# Altium footprint library 532614014.PcbLib: 3 footprints
Each footprint in its own frame and in the unit in brackets; x right, y up, seen from the top. Pads: shape width x height; smd on the part's side, far side on the other; paste and mask are expansions set on the pad; w line width, h text height; cw(c..) or ccw(c..) is an arc to the next point about the centre after c.
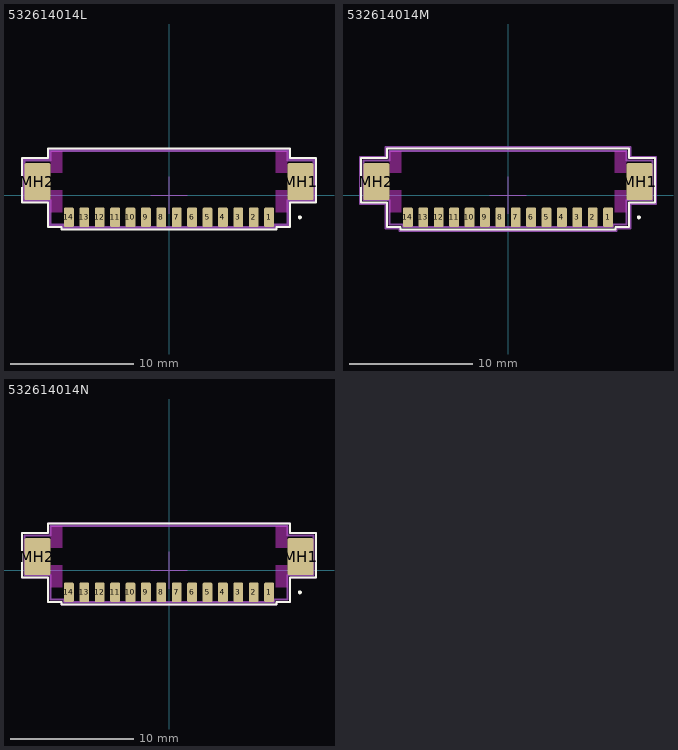
[diagram p0: the footprints below, top view; thin cyan lines are the x and y axes]

## 532614014L [mm] "Molex PicoBlade 14-Pin Right-Angle Connector with Gold Coating"
height 3.4
pads (16):
  rrect31% 0.8x1.6 smd: 1(8.125,-1.8) 2(6.875,-1.8) 3(5.625,-1.8) 4(4.375,-1.8) 5(3.125,-1.8) 6(1.875,-1.8) 7(0.625,-1.8) 8(-0.625,-1.8) 9(-1.875,-1.8) 10(-3.125,-1.8) 11(-4.375,-1.8) 12(-5.625,-1.8) 13(-6.875,-1.8) 14(-8.125,-1.8)
  rrect12% 2.1x3 smd: MH1(10.675,1.1) MH2(-10.675,1.1)
Top Layer keep-out:
  rectangle: -9.625,3.6 -8.625,1.8
  rectangle: 9.625,3.6 8.625,1.8
  rectangle: -9.625,-1.4 -8.625,0.4
  rectangle: 9.625,-1.4 8.625,0.4
Top Overlay:
  circle w0.16: c10.625,-1.8 r0.08
  lines w0.16: -11.925,-0.6 -9.825,-0.6 -9.825,-2.6 -8.725,-2.6 -8.725,-2.8 8.725,-2.8 8.725,-2.6 9.825,-2.6 9.825,-0.6 11.925,-0.6 11.925,3 9.825,3 9.825,3.8 -9.825,3.8 -9.825,3 -11.925,3 -11.925,-0.6
Top Component Center:
  lines w0.1: -1.5,0 1.5,0 ; 0,-1.5 0,1.5
Top Courtyard:
  lines w0.16: -11.825,-0.5 -9.725,-0.5 -9.725,-2.5 -8.625,-2.5 -8.625,-2.7 8.625,-2.7 8.625,-2.5 9.725,-2.5 9.725,-0.5 11.825,-0.5 11.825,2.9 9.725,2.9 9.725,3.7 -9.725,3.7 -9.725,2.9 -11.825,2.9 -11.825,-0.5
Top Assembly:
  lines w0.16: -11.725,-0.4 -9.625,-0.4 -9.625,-2.4 -8.525,-2.4 -8.525,-2.6 8.525,-2.6 8.525,-2.4 9.625,-2.4 9.625,-0.4 11.725,-0.4 11.725,2.8 9.625,2.8 9.625,3.6 -9.625,3.6 -9.625,2.8 -11.725,2.8 -11.725,-0.4
3D body "532614014L.STEP": height 3.4, standoff 0, extent -11.325,-2 11.325,3.2

## 532614014M [mm] "Molex PicoBlade 14-Pin Right-Angle Connector with Gold Coating"
height 3.4
pads (16):
  rrect31% 0.8x1.6 smd: 1(8.125,-1.8) 2(6.875,-1.8) 3(5.625,-1.8) 4(4.375,-1.8) 5(3.125,-1.8) 6(1.875,-1.8) 7(0.625,-1.8) 8(-0.625,-1.8) 9(-1.875,-1.8) 10(-3.125,-1.8) 11(-4.375,-1.8) 12(-5.625,-1.8) 13(-6.875,-1.8) 14(-8.125,-1.8)
  rrect12% 2.1x3 smd: MH1(10.675,1.1) MH2(-10.675,1.1)
Top Layer keep-out:
  rectangle: -9.625,3.6 -8.625,1.8
  rectangle: 9.625,3.6 8.625,1.8
  rectangle: -9.625,-1.4 -8.625,0.4
  rectangle: 9.625,-1.4 8.625,0.4
Top Overlay:
  circle w0.16: c10.625,-1.8 r0.08
  lines w0.16: -11.925,-0.6 -9.825,-0.6 -9.825,-2.6 -8.725,-2.6 -8.725,-2.8 8.725,-2.8 8.725,-2.6 9.825,-2.6 9.825,-0.6 11.925,-0.6 11.925,3 9.825,3 9.825,3.8 -9.825,3.8 -9.825,3 -11.925,3 -11.925,-0.6
Top Component Center:
  lines w0.1: -1.5,0 1.5,0 ; 0,-1.5 0,1.5
Top Courtyard:
  lines w0.16: -12.025,-0.7 -9.925,-0.7 -9.925,-2.7 -8.825,-2.7 -8.825,-2.9 8.825,-2.9 8.825,-2.7 9.925,-2.7 9.925,-0.7 12.025,-0.7 12.025,3.1 9.925,3.1 9.925,3.9 -9.925,3.9 -9.925,3.1 -12.025,3.1 -12.025,-0.7
Top Assembly:
  lines w0.16: -11.725,-0.4 -9.625,-0.4 -9.625,-2.4 -8.525,-2.4 -8.525,-2.6 8.525,-2.6 8.525,-2.4 9.625,-2.4 9.625,-0.4 11.725,-0.4 11.725,2.8 9.625,2.8 9.625,3.6 -9.625,3.6 -9.625,2.8 -11.725,2.8 -11.725,-0.4
3D body "532614014M.STEP": height 3.4, standoff 0, extent -11.325,-2 11.325,3.2

## 532614014N [mm] "Molex PicoBlade 14-Pin Right-Angle Connector with Gold Coating"
height 3.4
pads (16):
  rrect31% 0.8x1.6 smd: 1(8.125,-1.8) 2(6.875,-1.8) 3(5.625,-1.8) 4(4.375,-1.8) 5(3.125,-1.8) 6(1.875,-1.8) 7(0.625,-1.8) 8(-0.625,-1.8) 9(-1.875,-1.8) 10(-3.125,-1.8) 11(-4.375,-1.8) 12(-5.625,-1.8) 13(-6.875,-1.8) 14(-8.125,-1.8)
  rrect12% 2.1x3 smd: MH1(10.675,1.1) MH2(-10.675,1.1)
Top Layer keep-out:
  rectangle: -9.625,3.6 -8.625,1.8
  rectangle: 9.625,3.6 8.625,1.8
  rectangle: -9.625,-1.4 -8.625,0.4
  rectangle: 9.625,-1.4 8.625,0.4
Top Overlay:
  circle w0.16: c10.625,-1.8 r0.08
  lines w0.16: -11.925,-0.6 -9.825,-0.6 -9.825,-2.6 -8.725,-2.6 -8.725,-2.8 8.725,-2.8 8.725,-2.6 9.825,-2.6 9.825,-0.6 11.925,-0.6 11.925,3 9.825,3 9.825,3.8 -9.825,3.8 -9.825,3 -11.925,3 -11.925,-0.6
Top Component Center:
  lines w0.1: -1.5,0 1.5,0 ; 0,-1.5 0,1.5
Top Courtyard:
  lines w0.16: -11.925,-0.6 -9.825,-0.6 -9.825,-2.6 -8.725,-2.6 -8.725,-2.8 8.725,-2.8 8.725,-2.6 9.825,-2.6 9.825,-0.6 11.925,-0.6 11.925,3 9.825,3 9.825,3.8 -9.825,3.8 -9.825,3 -11.925,3 -11.925,-0.6
Top Assembly:
  lines w0.16: -11.725,-0.4 -9.625,-0.4 -9.625,-2.4 -8.525,-2.4 -8.525,-2.6 8.525,-2.6 8.525,-2.4 9.625,-2.4 9.625,-0.4 11.725,-0.4 11.725,2.8 9.625,2.8 9.625,3.6 -9.625,3.6 -9.625,2.8 -11.725,2.8 -11.725,-0.4
3D body "532614014N.STEP": height 3.4, standoff 0, extent -11.325,-2 11.325,3.2